# Altium schematic symbol library PMICs.SchLib: 2 symbols
Pins are listed as number, name and electrical type; pins without a type are passive.

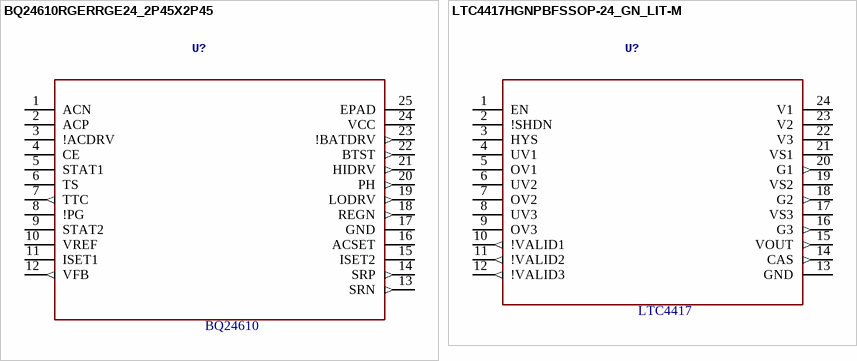
[diagram p0: symbols BQ24610RGERRGE24_2P45X2P45 to LTC4417HGNPBFSSOP-24_GN_LIT-M]

## BQ24610RGERRGE24_2P45X2P45
designator U?, comment BQ24610
Battery Charger IC BQ24610; Mfr_Name: Texas Instruments; GateName_1: A; SymbolName_1: BQ24610_RGE_24; DeviceName: RGE24_2P45X2P45; DeviceSetName: BQ24610RGER; LibraryName: 2022-08-03_21-56-26_Library; Copyright: Copyright (C) 2022 Ultra Librarian. All rights reserved.; Manufacturer_Part_Number: BQ24610RGER; LInk: *; Value: *; Package: QFN-24_EP_4.0x4.0x0.5P; SupplierPartNumber: https://www.rocelec.com/part/TISBQ24610RGER; SuppliersPartNumber: C19384; PartNumber: BQ24610
footprint QFN-24_EP_4.0x4.0x0.5P
pins: 1 ACN, 2 ACP, 3 !ACDRV, 4 CE, 5 STAT1, 6 TS, 7 TTC (out), 8 !PG, 9 STAT2, 10 VREF, 11 ISET1, 12 VFB (out), 13 SRN (out), 14 SRP (out), 15 ISET2, 16 ACSET, 17 GND (power), 18 REGN (out), 19 LODRV (out), 20 PH (out), 21 HIDRV (out), 22 BTST (out), 23 !BATDRV (out), 24 VCC (power), 25 EPAD (power)

## LTC4417HGNPBFSSOP-24_GN_LIT-M
designator U?, comment LTC4417
PowerPath Controller LTC4417; Mfr_Name: Analog Devices / Linear Technology; Manufacturer_Part_Number: LTC4417HGN#PBF; GateName_1: A; SymbolName_1: LTC4417HGNPBF; DeviceName: SSOP-24_GN_LIT-M; LibraryName: 2022-07-26_13-50-08_Library; DeviceSetName: LTC4417HGNPBF; Copyright: Copyright (C) 2022 Ultra Librarian. All rights reserved.; Digi-Key_Part_Number_1: LTC4417HGN#PBF-ND; Link: https://www.digikey.ca/en/products/detail/analog-devices-inc/LTC4417HGN-PBF/3838529?s=N4IgTCBcDaIDIBUDCAWFBGA7ACQOIDkBiABQCEAxEAXQF8g; Package: 24-SSOP; PartNumber: LTC4417HGN#PBF; SupplierNumber: LTC4417HGN#PBF-ND; SuppliersPartNumber: LTC4417HGN#PBF; Value: LTC4417
footprint SSOP-24_GN_LIT-M
pins: 1 EN, 2 !SHDN, 3 HYS, 4 UV1, 5 OV1, 6 UV2, 7 OV2, 8 UV3, 9 OV3, 10 !VALID1 (out), 11 !VALID2 (out), 12 !VALID3 (out), 13 GND (power), 14 CAS (out), 15 VOUT (out), 16 G3 (out), 17 VS3, 18 G2 (out), 19 VS2, 20 G1 (out), 21 VS1, 22 V3, 23 V2, 24 V1